# Altium footprint library PcbLib1.PcbLib: 7 footprints
Each footprint in its own frame and in the unit in brackets; x right, y up, seen from the top. Pads: shape width x height; smd on the part's side, far side on the other; paste and mask are expansions set on the pad; w line width, h text height; cw(c..) or ccw(c..) is an arc to the next point about the centre after c.
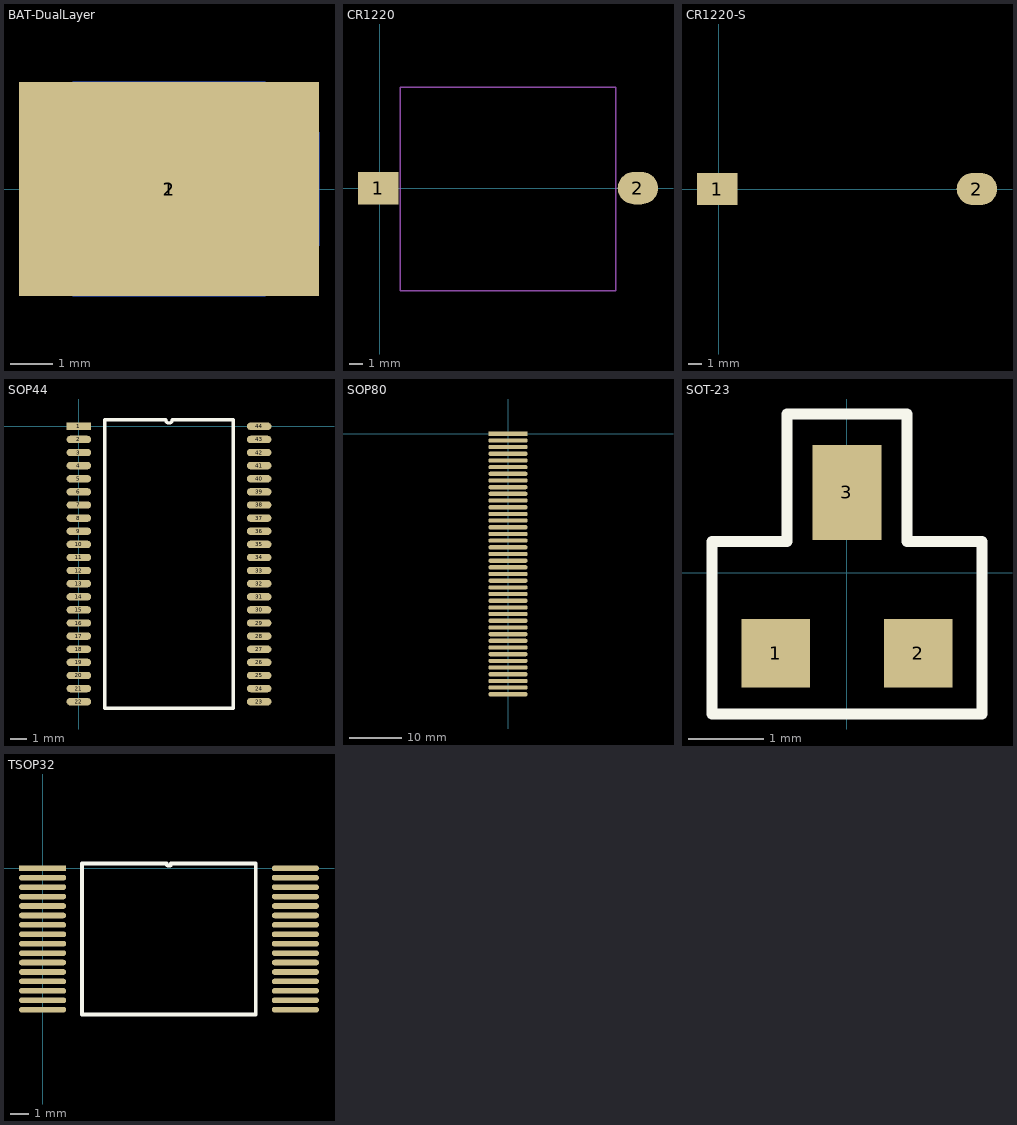
[diagram p0: the footprints below, top view; thin cyan lines are the x and y axes]

## BAT-DualLayer [mm]
pads (2):
  rect 7x5 smd: 1(9.271,0)
  rrect50% 7x5 smd far side: 2(9.271,0)

## CR1220 [mm]
pads (2):
  rect 3x2.4 smd: 1(-0.127,0)
  oval 3x2.4 smd: 2(19.177,0)
Mechanical 1:
  lines w0.127: 1.524,-7.62 1.524,7.493 17.526,7.493 17.526,-7.62 1.524,-7.62

## CR1220-S [mm]
pads (2):
  rect 3x2.4 smd: 1(-0.127,0)
  oval 3x2.4 smd: 2(19.177,0)

## SOP44 [mm]
pads (44):
  rect 1.5x0.45 smd: 1(0,0)
  oval 1.5x0.45 smd: 2(0,-0.8) 3(0,-1.6) 4(0,-2.4) 5(0,-3.2) 6(0,-4) 7(0,-4.8) 8(0,-5.6) 9(0,-6.4) 10(0,-7.2) 11(0,-8) 12(0,-8.8) 13(0,-9.6) 14(0,-10.4) 15(0,-11.2) 16(0,-12) 17(0,-12.8) 18(0,-13.6) 19(0,-14.4) 20(0,-15.2) 21(0,-16) 22(0,-16.8) 23(11,-16.8) 24(11,-16) 25(11,-15.2) 26(11,-14.4) 27(11,-13.6) 28(11,-12.8) 29(11,-12) 30(11,-11.2) 31(11,-10.4) 32(11,-9.6) 33(11,-8.8) 34(11,-8) 35(11,-7.2) 36(11,-6.4) 37(11,-5.6) 38(11,-4.8) 39(11,-4) 40(11,-3.2) 41(11,-2.4) 42(11,-1.6) 43(11,-0.8) 44(11,0)
Top Overlay:
  lines w0.2: 1.585,-17.2 9.415,-17.2 9.415,0.4 5.7,0.4 cw(c5.5,0.4) 5.3,0.4 1.585,0.4 1.585,-17.2

## SOP80 [mm]
pads (40):
  rect 7.5x0.8 smd: 1(0,0)
  oval 7.5x0.8 smd: 2(0,-1.27) 3(0,-2.54) 4(0,-3.81) 5(0,-5.08) 6(0,-6.35) 7(0,-7.62) 8(0,-8.89) 9(0,-10.16) 10(0,-11.43) 11(0,-12.7) 12(0,-13.97) 13(0,-15.24) 14(0,-16.51) 15(0,-17.78) 16(0,-19.05) 17(0,-20.32) 18(0,-21.59) 19(0,-22.86) 20(0,-24.13) 21(0,-25.4) 22(0,-26.67) 23(0,-27.94) 24(0,-29.21) 25(0,-30.48) 26(0,-31.75) 27(0,-33.02) 28(0,-34.29) 29(0,-35.56) 30(0,-36.83) 31(0,-38.1) 32(0,-39.37) 33(0,-40.64) 34(0,-41.91) 35(0,-43.18) 36(0,-44.45) 37(0,-45.72) 38(0,-46.99) 39(0,-48.26) 40(0,-49.53)

## SOT-23 [mil]
pads (3):
  rect 36x36 smd: 1(-37.4,-42.18) 2(37.4,-42.18)
  rect 36x50 smd: 3(0,42.18)
Top Overlay:
  lines w5.91: -70.87,-74.11 -70.87,16.44 -31.5,16.44 -31.5,83.37 31.5,83.37 31.5,16.44 70.87,16.44 70.87,-74.11 -70.87,-74.11
3D body: height 43, standoff 0, extent -55,-51 55,45

## TSOP32 [mm]
pads (32):
  rect 2.5x0.3 smd: 1(0,0)
  oval 2.5x0.3 smd: 2(0,-0.5) 3(0,-1) 4(0,-1.5) 5(0,-2) 6(0,-2.5) 7(0,-3) 8(0,-3.5) 9(0,-4) 10(0,-4.5) 11(0,-5) 12(0,-5.5) 13(0,-6) 14(0,-6.5) 15(0,-7) 16(0,-7.5) 17(13.412,-7.5) 18(13.412,-7) 19(13.412,-6.5) 20(13.412,-6) 21(13.412,-5.5) 22(13.412,-5) 23(13.412,-4.5) 24(13.412,-4) 25(13.412,-3.5) 26(13.412,-3) 27(13.412,-2.5) 28(13.412,-2) 29(13.412,-1.5) 30(13.412,-1) 31(13.412,-0.5) 32(13.412,0)
Top Overlay:
  lines w0.2: 6.579,0.25 2.085,0.25 2.085,-7.75 11.303,-7.75 11.303,0.25 6.807,0.25 ; 6.581,0.254 ccw(c6.706,0.254) 6.831,0.254